# EAGLE library part EP4CE6F17C8N (library ICs)
6K LE, 256pin FBGA, Cyclone IV FPGA
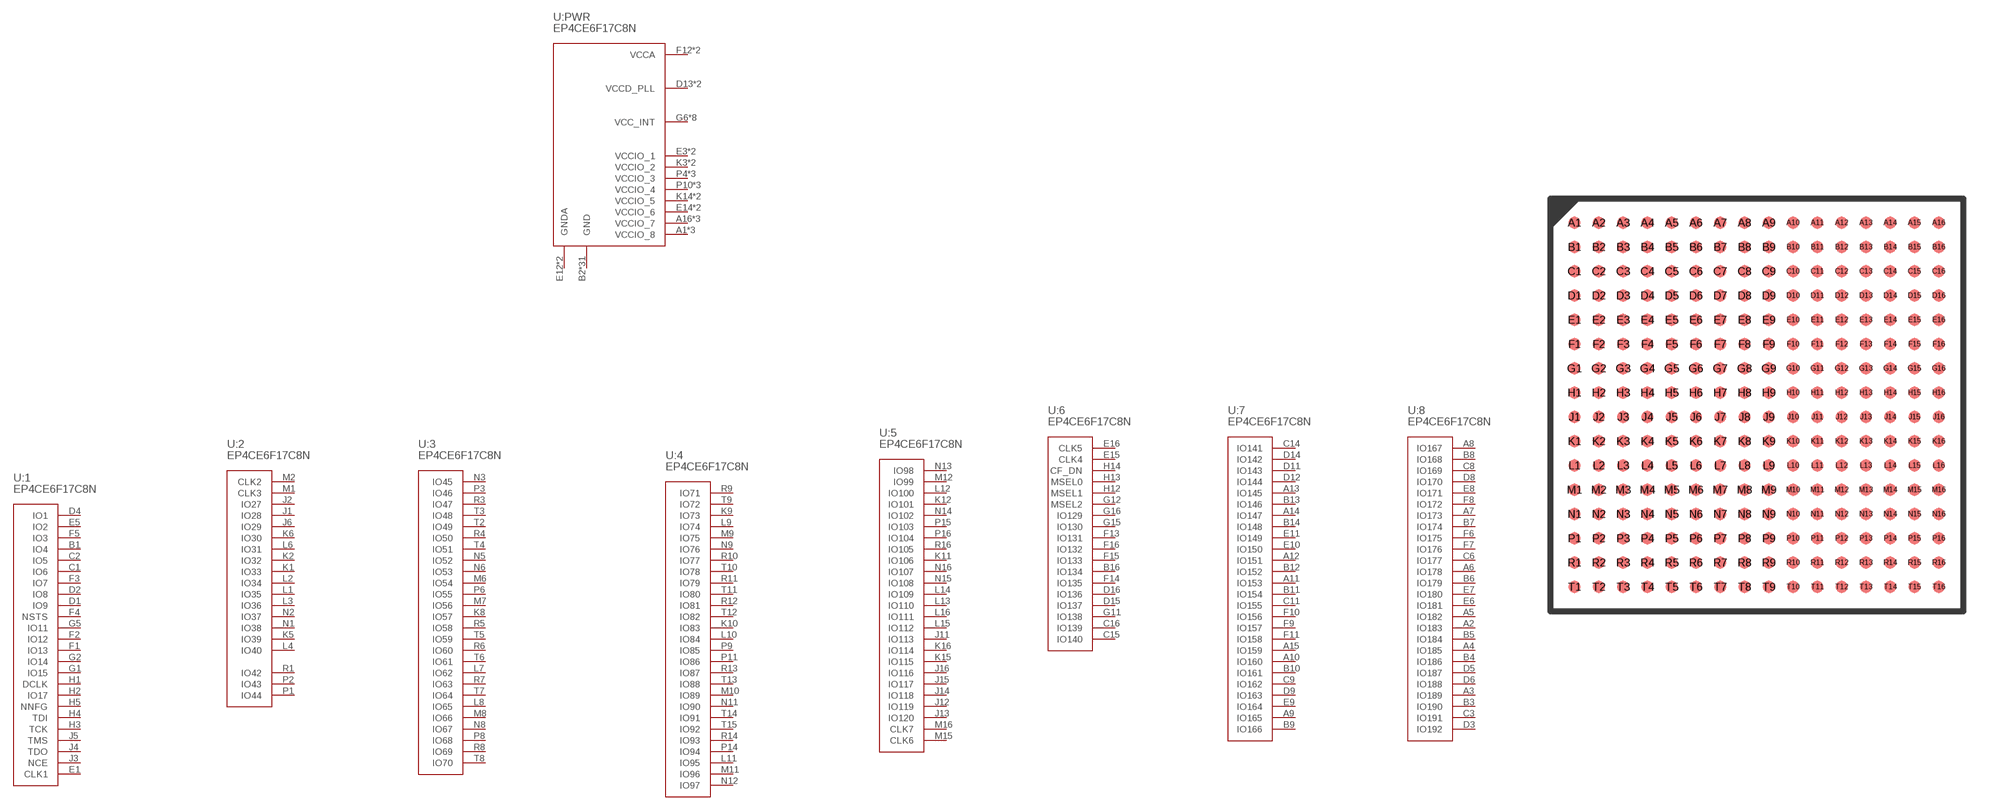
[diagram p66: symbol with the pads of BGA256_FBGA; footprint BGA256_FBGA]

Designator prefix U; gates :PWR=EP4CE6F17C8N_PWR :1=EP4CE6F17C8N_B1 :2=EP4CE6F17C8N_B2 :3=EP4CE6F17C8N_B3 :4=EP4CE6F17C8N_B4 :5=EP4CE6F17C8N_B5 :6=EP4CE6F17C8N_B6 :7=EP4CE6F17C8N_B7 :8=EP4CE6F17C8N_B8

## EP4CE6F17C8N (FARNELL: 2100853; PRICE_PER: 14.6; VALUE: EP4CE6F17C8N)  [BGA256_FBGA]
A1  :PWR:VCCIO_8
A2  :8:IO183
A3  :8:IO189
A4  :8:IO185
A5  :8:IO182
A6  :8:IO178
A7  :8:IO173
A8  :8:IO167
A9  :7:IO165
A10  :7:IO160
A11  :7:IO153
A12  :7:IO151
A13  :7:IO145
A14  :7:IO147
A15  :7:IO159
A16  :PWR:VCCIO_7
B1  :1:IO4
B2  :PWR:GND
B3  :8:IO190
B4  :8:IO186
B5  :8:IO184
B6  :8:IO179
B7  :8:IO174
B8  :8:IO168
B9  :7:IO166
B10  :7:IO161
B11  :7:IO154
B12  :7:IO152
B13  :7:IO146
B14  :7:IO148
B15  :PWR:GND
B16  :6:IO134
C1  :1:IO6
C2  :1:IO5
C3  :8:IO191
C4  :PWR:VCCIO_8
C5  :PWR:GND
C6  :8:IO177
C7  :PWR:VCCIO_8
C8  :8:IO169
C9  :7:IO162
C10  :PWR:VCCIO_7
C11  :7:IO155
C12  :PWR:GND
C13  :PWR:VCCIO_7
C14  :7:IO141
C15  :6:IO140
C16  :6:IO139
D1  :1:IO9
D2  :1:IO8
D3  :8:IO192
D4  :1:IO1
D5  :8:IO187
D6  :8:IO188
D7  :PWR:GND
D8  :8:IO170
D9  :7:IO163
D10  :PWR:GND
D11  :7:IO143
D12  :7:IO144
D13  :PWR:VCCD_PLL
D14  :7:IO142
D15  :6:IO137
D16  :6:IO136
E1  :1:CLK1
E2  :PWR:GND
E3  :PWR:VCCIO_1
E4  :PWR:GND
E5  :1:IO2
E6  :8:IO181
E7  :8:IO180
E8  :8:IO171
E9  :7:IO164
E10  :7:IO150
E11  :7:IO149
E12  :PWR:GNDA
E13  :PWR:GND
E14  :PWR:VCCIO_6
E15  :6:CLK4
E16  :6:CLK5
F1  :1:IO13
F2  :1:IO12
F3  :1:IO7
F4  :1:NSTS
F5  :1:IO3
F6  :8:IO175
F7  :8:IO176
F8  :8:IO172
F9  :7:IO157
F10  :7:IO156
F11  :7:IO158
F12  :PWR:VCCA
F13  :6:IO131
F14  :6:IO135
F15  :6:IO133
F16  :6:IO132
G1  :1:IO15
G2  :1:IO14
G3  :PWR:VCCIO_1
G4  :PWR:GND
G5  :1:IO11
G6  :PWR:VCC_INT
G7  :PWR:VCC_INT
G8  :PWR:VCC_INT
G9  :PWR:VCC_INT
G10  :PWR:VCC_INT
G11  :6:IO138
G12  :6:MSEL2
G13  :PWR:GND
G14  :PWR:VCCIO_6
G15  :6:IO130
G16  :6:IO129
H1  :1:DCLK
H2  :1:IO17
H3  :1:TCK
H4  :1:TDI
H5  :1:NNFG
H6  :PWR:VCC_INT
H7  :PWR:GND
H8  :PWR:GND
H9  :PWR:GND
H10  :PWR:GND
H11  :PWR:VCC_INT
H12  :6:MSEL1
H13  :6:MSEL0
H14  :6:CF_DN
H15  :PWR:GND
H16  :PWR:GND
J1  :2:IO28
J2  :2:IO27
J3  :1:NCE
J4  :1:TDO
J5  :1:TMS
J6  :2:IO29
J7  :PWR:GND
J8  :PWR:GND
J9  :PWR:GND
J10  :PWR:GND
J11  :5:IO113
J12  :5:IO119
J13  :5:IO120
J14  :5:IO118
J15  :5:IO117
J16  :5:IO116
K1  :2:IO33
K2  :2:IO32
K3  :PWR:VCCIO_2
K4  :PWR:GND
K5  :2:IO39
K6  :2:IO30
K7  :PWR:VCC_INT
K8  :3:IO57
K9  :4:IO73
K10  :4:IO83
K11  :5:IO106
K12  :5:IO101
K13  :PWR:GND
K14  :PWR:VCCIO_5
K15  :5:IO115
K16  :5:IO114
L1  :2:IO35
L2  :2:IO34
L3  :2:IO36
L4  :2:IO40
L5  :PWR:VCCA
L6  :2:IO31
L7  :3:IO62
L8  :3:IO65
L9  :4:IO74
L10  :4:IO84
L11  :4:IO95
L12  :5:IO100
L13  :5:IO110
L14  :5:IO109
L15  :5:IO112
L16  :5:IO111
M1  :2:CLK3
M2  :2:CLK2
M3  :PWR:VCCIO_2
M4  :PWR:GND
M5  :PWR:GNDA
M6  :3:IO54
M7  :3:IO56
M8  :3:IO66
M9  :4:IO75
M10  :4:IO89
M11  :4:IO96
M12  :5:IO99
M13  :PWR:GND
M14  :PWR:VCCIO_5
M15  :5:CLK6
M16  :5:CLK7
N1  :2:IO38
N2  :2:IO37
N3  :3:IO45
N4  :PWR:VCCD_PLL
N5  :3:IO52
N6  :3:IO53
N7  :PWR:GND
N8  :3:IO67
N9  :4:IO76
N10  :PWR:GND
N11  :4:IO90
N12  :4:IO97
N13  :5:IO98
N14  :5:IO102
N15  :5:IO108
N16  :5:IO107
P1  :2:IO44
P2  :2:IO43
P3  :3:IO46
P4  :PWR:VCCIO_3
P5  :PWR:GND
P6  :3:IO55
P7  :PWR:VCCIO_3
P8  :3:IO68
P9  :4:IO85
P10  :PWR:VCCIO_4
P11  :4:IO86
P12  :PWR:GND
P13  :PWR:VCCIO_4
P14  :4:IO94
P15  :5:IO103
P16  :5:IO104
R1  :2:IO42
R2  :PWR:GND
R3  :3:IO47
R4  :3:IO50
R5  :3:IO58
R6  :3:IO60
R7  :3:IO63
R8  :3:IO69
R9  :4:IO71
R10  :4:IO77
R11  :4:IO79
R12  :4:IO81
R13  :4:IO87
R14  :4:IO93
R15  :PWR:GND
R16  :5:IO105
T1  :PWR:VCCIO_3
T2  :3:IO49
T3  :3:IO48
T4  :3:IO51
T5  :3:IO59
T6  :3:IO61
T7  :3:IO64
T8  :3:IO70
T9  :4:IO72
T10  :4:IO78
T11  :4:IO80
T12  :4:IO82
T13  :4:IO88
T14  :4:IO91
T15  :4:IO92
T16  :PWR:VCCIO_4

## Footprint BGA256_FBGA (pad centres in mm)
smd 0.5 x 0.5: A1 -7.5,7.5; A2 -6.5,7.5; A3 -5.5,7.5; A4 -4.5,7.5; A5 -3.5,7.5; A6 -2.5,7.5; A7 -1.5,7.5; A8 -0.5,7.5; A9 0.5,7.5; A10 1.5,7.5; A11 2.5,7.5; A12 3.5,7.5; A13 4.5,7.5; A14 5.5,7.5; A15 6.5,7.5; A16 7.5,7.5; B1 -7.5,6.5; B2 -6.5,6.5; B3 -5.5,6.5; B4 -4.5,6.5; B5 -3.5,6.5; B6 -2.5,6.5; B7 -1.5,6.5; B8 -0.5,6.5; B9 0.5,6.5; B10 1.5,6.5; B11 2.5,6.5; B12 3.5,6.5; B13 4.5,6.5; B14 5.5,6.5; B15 6.5,6.5; B16 7.5,6.5; C1 -7.5,5.5; C2 -6.5,5.5; C3 -5.5,5.5; C4 -4.5,5.5; C5 -3.5,5.5; C6 -2.5,5.5; C7 -1.5,5.5; C8 -0.5,5.5; C9 0.5,5.5; C10 1.5,5.5; C11 2.5,5.5; C12 3.5,5.5; C13 4.5,5.5; C14 5.5,5.5; C15 6.5,5.5; C16 7.5,5.5; D1 -7.5,4.5; D2 -6.5,4.5; D3 -5.5,4.5; D4 -4.5,4.5; D5 -3.5,4.5; D6 -2.5,4.5; D7 -1.5,4.5; D8 -0.5,4.5; D9 0.5,4.5; D10 1.5,4.5; D11 2.5,4.5; D12 3.5,4.5; D13 4.5,4.5; D14 5.5,4.5; D15 6.5,4.5; D16 7.5,4.5; E1 -7.5,3.5; E2 -6.5,3.5; E3 -5.5,3.5; E4 -4.5,3.5; E5 -3.5,3.5; E6 -2.5,3.5; E7 -1.5,3.5; E8 -0.5,3.5; E9 0.5,3.5; E10 1.5,3.5; E11 2.5,3.5; E12 3.5,3.5; E13 4.5,3.5; E14 5.5,3.5; E15 6.5,3.5; E16 7.5,3.5; F1 -7.5,2.5; F2 -6.5,2.5; F3 -5.5,2.5; F4 -4.5,2.5; F5 -3.5,2.5; F6 -2.5,2.5; F7 -1.5,2.5; F8 -0.5,2.5; F9 0.5,2.5; F10 1.5,2.5; F11 2.5,2.5; F12 3.5,2.5; F13 4.5,2.5; F14 5.5,2.5; F15 6.5,2.5; F16 7.5,2.5; G1 -7.5,1.5; G2 -6.5,1.5; G3 -5.5,1.5; G4 -4.5,1.5; G5 -3.5,1.5; G6 -2.5,1.5; G7 -1.5,1.5; G8 -0.5,1.5; G9 0.5,1.5; G10 1.5,1.5; G11 2.5,1.5; G12 3.5,1.5; G13 4.5,1.5; G14 5.5,1.5; G15 6.5,1.5; G16 7.5,1.5; H1 -7.5,0.5; H2 -6.5,0.5; H3 -5.5,0.5; H4 -4.5,0.5; H5 -3.5,0.5; H6 -2.5,0.5; H7 -1.5,0.5; H8 -0.5,0.5; H9 0.5,0.5; H10 1.5,0.5; H11 2.5,0.5; H12 3.5,0.5; H13 4.5,0.5; H14 5.5,0.5; H15 6.5,0.5; H16 7.5,0.5; J1 -7.5,-0.5; J2 -6.5,-0.5; J3 -5.5,-0.5; J4 -4.5,-0.5; J5 -3.5,-0.5; J6 -2.5,-0.5; J7 -1.5,-0.5; J8 -0.5,-0.5; J9 0.5,-0.5; J10 1.5,-0.5; J11 2.5,-0.5; J12 3.5,-0.5; J13 4.5,-0.5; J14 5.5,-0.5; J15 6.5,-0.5; J16 7.5,-0.5; K1 -7.5,-1.5; K2 -6.5,-1.5; K3 -5.5,-1.5; K4 -4.5,-1.5; K5 -3.5,-1.5; K6 -2.5,-1.5; K7 -1.5,-1.5; K8 -0.5,-1.5; K9 0.5,-1.5; K10 1.5,-1.5; K11 2.5,-1.5; K12 3.5,-1.5; K13 4.5,-1.5; K14 5.5,-1.5; K15 6.5,-1.5; K16 7.5,-1.5; L1 -7.5,-2.5; L2 -6.5,-2.5; L3 -5.5,-2.5; L4 -4.5,-2.5; L5 -3.5,-2.5; L6 -2.5,-2.5; L7 -1.5,-2.5; L8 -0.5,-2.5; L9 0.5,-2.5; L10 1.5,-2.5; L11 2.5,-2.5; L12 3.5,-2.5; L13 4.5,-2.5; L14 5.5,-2.5; L15 6.5,-2.5; L16 7.5,-2.5; M1 -7.5,-3.5; M2 -6.5,-3.5; M3 -5.5,-3.5; M4 -4.5,-3.5; M5 -3.5,-3.5; M6 -2.5,-3.5; M7 -1.5,-3.5; M8 -0.5,-3.5; M9 0.5,-3.5; M10 1.5,-3.5; M11 2.5,-3.5; M12 3.5,-3.5; M13 4.5,-3.5; M14 5.5,-3.5; M15 6.5,-3.5; M16 7.5,-3.5; N1 -7.5,-4.5; N2 -6.5,-4.5; N3 -5.5,-4.5; N4 -4.5,-4.5; N5 -3.5,-4.5; N6 -2.5,-4.5; N7 -1.5,-4.5; N8 -0.5,-4.5; N9 0.5,-4.5; N10 1.5,-4.5; N11 2.5,-4.5; N12 3.5,-4.5; N13 4.5,-4.5; N14 5.5,-4.5; N15 6.5,-4.5; N16 7.5,-4.5; P1 -7.5,-5.5; P2 -6.5,-5.5; P3 -5.5,-5.5; P4 -4.5,-5.5; P5 -3.5,-5.5; P6 -2.5,-5.5; P7 -1.5,-5.5; P8 -0.5,-5.5; P9 0.5,-5.5; P10 1.5,-5.5; P11 2.5,-5.5; P12 3.5,-5.5; P13 4.5,-5.5; P14 5.5,-5.5; P15 6.5,-5.5; P16 7.5,-5.5; R1 -7.5,-6.5; R2 -6.5,-6.5; R3 -5.5,-6.5; R4 -4.5,-6.5; R5 -3.5,-6.5; R6 -2.5,-6.5; R7 -1.5,-6.5; R8 -0.5,-6.5; R9 0.5,-6.5; R10 1.5,-6.5; R11 2.5,-6.5; R12 3.5,-6.5; R13 4.5,-6.5; R14 5.5,-6.5; R15 6.5,-6.5; R16 7.5,-6.5; T1 -7.5,-7.5; T2 -6.5,-7.5; T3 -5.5,-7.5; T4 -4.5,-7.5; T5 -3.5,-7.5; T6 -2.5,-7.5; T7 -1.5,-7.5; T8 -0.5,-7.5; T9 0.5,-7.5; T10 1.5,-7.5; T11 2.5,-7.5; T12 3.5,-7.5; T13 4.5,-7.5; T14 5.5,-7.5; T15 6.5,-7.5; T16 7.5,-7.5